# Altium integrated library BC817W.IntLib: 2 symbols
Pins are listed as number, name and electrical type; pins without a type are passive.

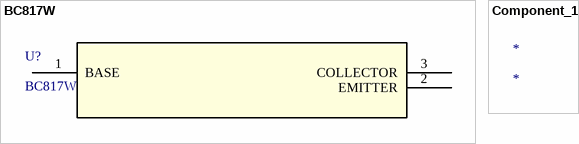
[diagram p0: symbols BC817W to Component_1]

## BC817W
designator U?
No Description Available; Mfr_Name: Nexperia; Copyright: Copyright (C) 2022 Ultra Librarian. All rights reserved.; Manufacturer_Part_Number: BC817W; RefDes: RefDes; Type: DEV
footprint SOT323_NEX
pins: 1 BASE, 2 EMITTER, 3 COLLECTOR

## Component_1
designator *